# EAGLE library part 736-324 (library con-wago_736)
Serie 736, Doppelstock-Klemmenleiste für Leiterplatten 2 Lötstifte in Reihe / Series 736, Double-deck PCB terminal strip 2 solder pins, in line Polzahl / Pole No.: 24 Rastermaß / Pitch: 5.08 mm Bemessungsspannung / Rated Voltage: 320 V Nennstrom / Nominal Current: 21 A Leiterquerschnitt / Conductor Size: 0.08 - 2.5 mm² Anschlusstechnik / Connection Technology: CAGE CLAMP® Lötstiftlänge: / Solder Pin Length: 4 mm Leitereinführung (zur Platine) / Conductor entry angle (to PCB): 45 ° Farbe / Color: orange / orange Stand: 01.01.2012. Die jeweils aktuellen Daten zu diesem Artikel finden Sie in unserem Produktkatalog, den Sie unter www.wago.com einsehen können. As of: 01/01/2012. Please find the newest data for this article in our product catalogue, which can be viewed under www.wago.com.
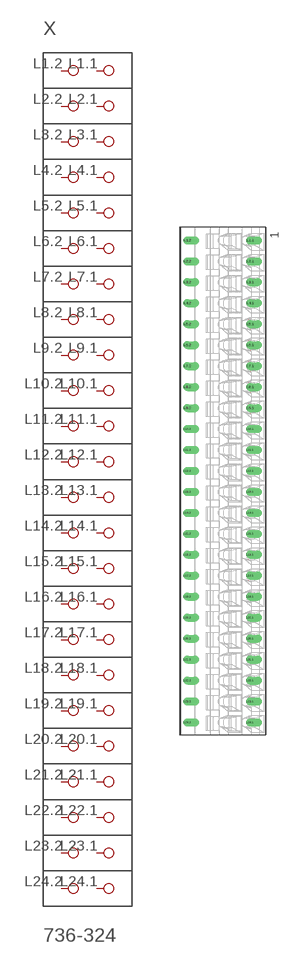
[diagram p42: symbol with the pads of P-736-324; footprint P-736-324]

Designator prefix X

## 736-324  [P-736-324]
L1.1  P1.1
L1.2  P1.2
L2.1  P2.1
L2.2  P2.2
L3.1  P3.1
L3.2  P3.2
L4.1  P4.1
L4.2  P4.2
L5.1  P5.1
L5.2  P5.2
L6.1  P6.1
L6.2  P6.2
L7.1  P7.1
L7.2  P7.2
L8.1  P8.1
L8.2  P8.2
L9.1  P9.1
L9.2  P9.2
L10.1  P10.1
L10.2  P10.2
L11.1  P11.1
L11.2  P11.2
L12.1  P12.1
L12.2  P12.2
L13.1  P13.1
L13.2  P13.2
L14.1  P14.1
L14.2  P14.2
L15.1  P15.1
L15.2  P15.2
L16.1  P16.1
L16.2  P16.2
L17.1  P17.1
L17.2  P17.2
L18.1  P18.1
L18.2  P18.2
L19.1  P19.1
L19.2  P19.2
L20.1  P20.1
L20.2  P20.2
L21.1  P21.1
L21.2  P21.2
L22.1  P22.1
L22.2  P22.2
L23.1  P23.1
L23.2  P23.2
L24.1  P24.1
L24.2  P24.2

## Footprint P-736-324 (pad centres in mm)
drill 1.3 offset: L1.1 6.64,58.33; L1.2 -8.6,58.33; L2.1 6.64,53.25; L2.2 -8.6,53.25; L3.1 6.64,48.17; L3.2 -8.6,48.17; L4.1 6.64,43.09; L4.2 -8.6,43.09; L5.1 6.64,38.01; L5.2 -8.6,38.01; L6.1 6.64,32.93; L6.2 -8.6,32.93; L7.1 6.64,27.85; L7.2 -8.6,27.85; L8.1 6.64,22.77; L8.2 -8.6,22.77; L9.1 6.64,17.69; L9.2 -8.6,17.69; L10.1 6.64,12.61; L10.2 -8.6,12.61; L11.1 6.64,7.53; L11.2 -8.6,7.53; L12.1 6.64,2.45; L12.2 -8.6,2.45; L13.1 6.64,-2.63; L13.2 -8.6,-2.63; L14.1 6.64,-7.71; L14.2 -8.6,-7.71; L15.1 6.64,-12.79; L15.2 -8.6,-12.79; L16.1 6.64,-17.87; L16.2 -8.6,-17.87; L17.1 6.64,-22.95; L17.2 -8.6,-22.95; L18.1 6.64,-28.03; L18.2 -8.6,-28.03; L19.1 6.64,-33.11; L19.2 -8.6,-33.11; L20.1 6.64,-38.19; L20.2 -8.6,-38.19; L21.1 6.64,-43.27; L21.2 -8.6,-43.27; L22.1 6.64,-48.35; L22.2 -8.6,-48.35; L23.1 6.64,-53.43; L23.2 -8.6,-53.43; L24.1 6.64,-58.51; L24.2 -8.6,-58.51